# Altium footprint library STM32_F4VE.PcbLib: 20 footprints (part 1 of 2)
Each footprint in its own frame and in the unit in brackets; x right, y up, seen from the top. Pads: shape width x height; smd on the part's side, far side on the other; paste and mask are expansions set on the pad; w line width, h text height; cw(c..) or ccw(c..) is an arc to the next point about the centre after c.
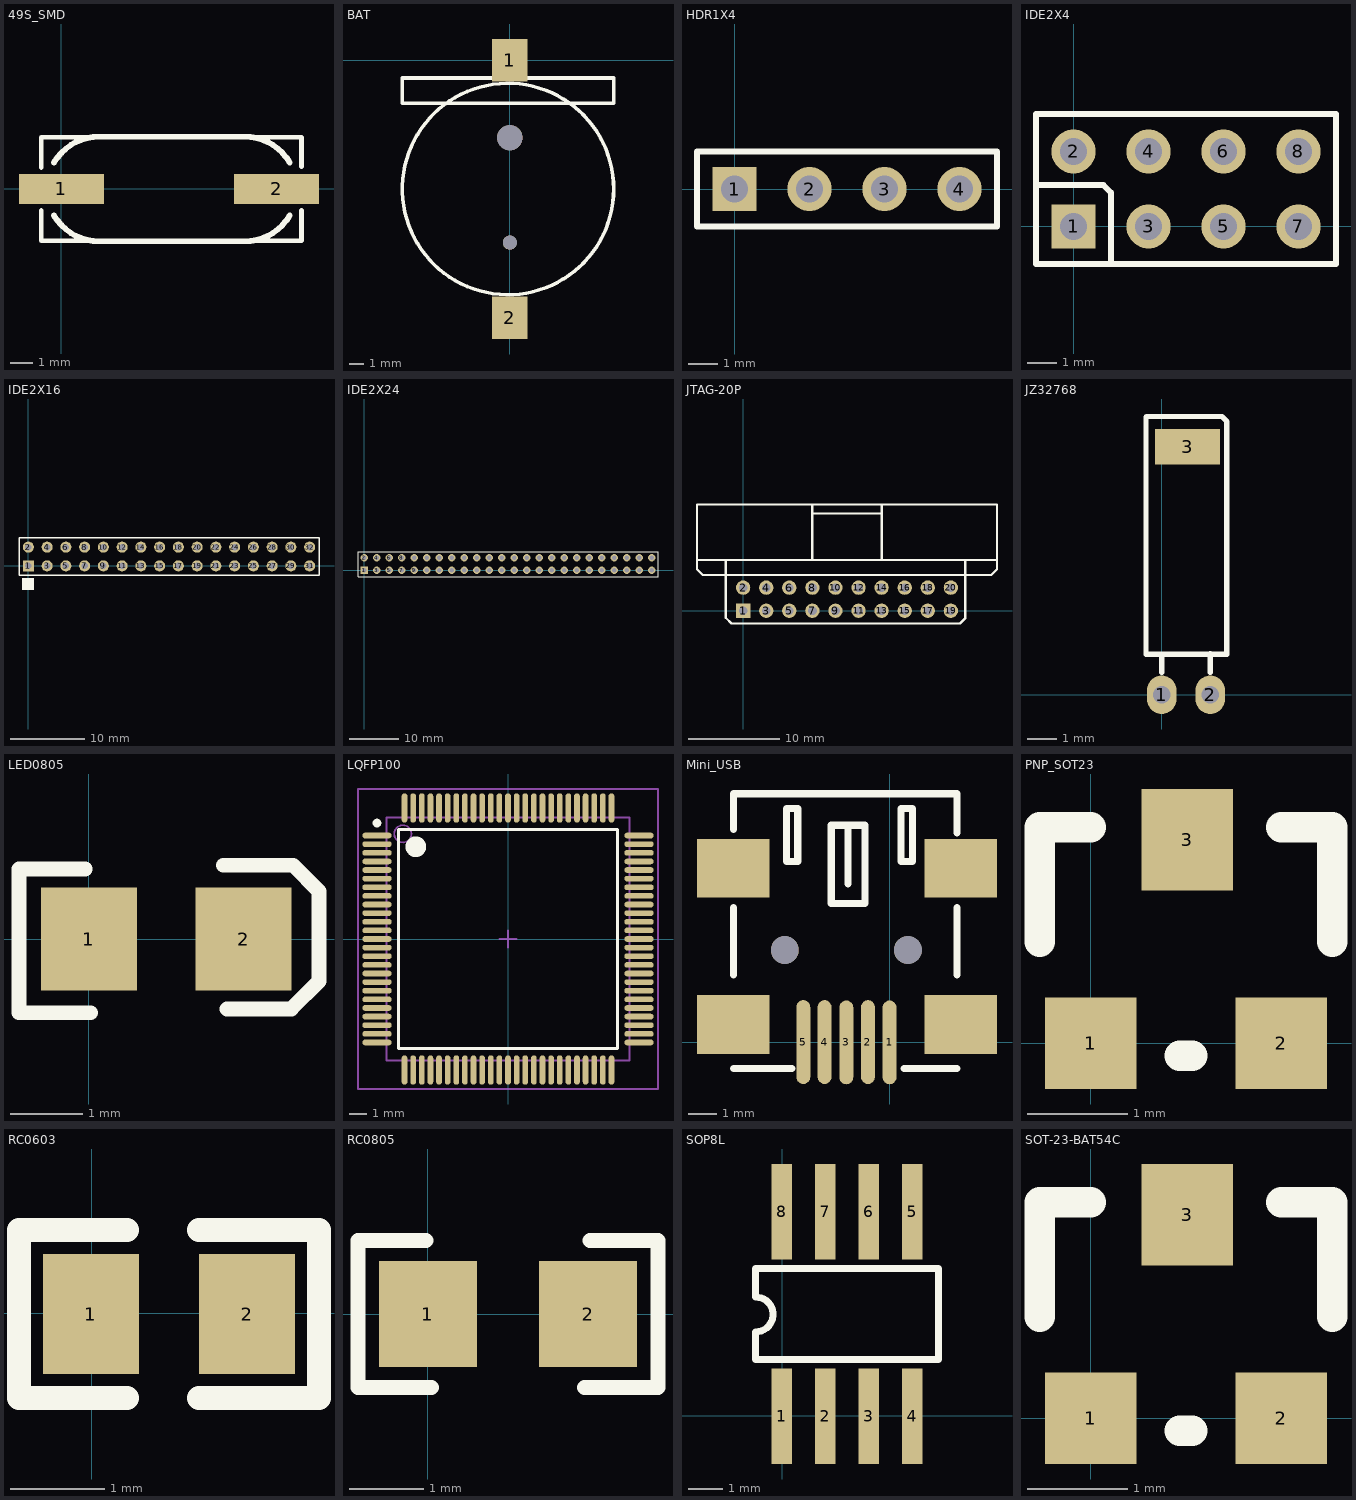
[diagram p0: the footprints below, top view; thin cyan lines are the x and y axes]

## 49S_SMD [mil]
pads (2):
  rect 146x51 smd: 1(0,0) 2(370,0)
Top Overlay:
  lines w8: -35,-37 -35,-89 413,-89 413,-37 ; -35,37 -35,89 413,89 413,38
  lines w10: -12.57,-45.63 ccw(c65,0) 65,-90 315,-90 ccw(c315,0) 392.57,-45.63 ; -12.57,45.63 cw(c65,0) 65,90 ; 55,90 315,90 cw(c315,0) 392.57,45.63

## BAT [mm]
pads (4):
  rect 2.5x3 smd: 1(0,0) 2(0,-18.288)
  round 1 hole 1: ""(0,-12.95)
  round 1.8 hole 1.8: ""(0,-5.5)
Top Overlay:
  circle w0.254: c-0.128,-9.144 r7.5
  lines w0.254: -7.62,-3.048 -7.62,-1.27 7.366,-1.27 7.366,-3.048 -7.62,-3.048

## HDR1X4 [mm] "Connector; Header; 4 Position"
pads (4):
  rect 1.5x1.5 hole 0.9: 1(0,0)
  round 1.5 hole 0.9: 2(2.54,0) 3(5.08,0) 4(7.62,0)
Top Overlay:
  lines w0.2: -1.27,-1.27 8.89,-1.27 8.89,1.27 -1.27,1.27 -1.27,-1.27

## IDE2X4 [mm]
pads (8):
  rect 1.5x1.5 hole 0.9: 1(0,0)
  round 1.5 hole 0.9: 2(0,2.54) 3(2.54,0) 4(2.54,2.54) 5(5.08,0) 6(5.08,2.54) 7(7.62,0) 8(7.62,2.54)
Top Overlay:
  lines w0.2: -1.27,-1.27 8.89,-1.27 8.89,3.81 -1.27,3.81 -1.27,-1.27
  lines w0.203: -1.27,1.397 1.016,1.397 1.27,1.143 1.27,-1.27

## IDE2X16 [mm]
pads (32):
  rect 1.5x1.5 hole 0.9: 1(0,0)
  round 1.5 hole 0.9: 2(0,2.54) 3(2.54,0) 4(2.54,2.54) 5(5.08,0) 6(5.08,2.54) 7(7.62,0) 8(7.62,2.54) 9(10.16,0) 10(10.16,2.54) 11(12.7,0) 12(12.7,2.54) 13(15.24,0) 14(15.24,2.54) 15(17.78,0) 16(17.78,2.54) 17(20.32,0) 18(20.32,2.54) 19(22.86,0) 20(22.86,2.54) 21(25.4,0) 22(25.4,2.54) 23(27.94,0) 24(27.94,2.54) 25(30.48,0) 26(30.48,2.54) 27(33.02,0) 28(33.02,2.54) 29(35.56,0) 30(35.56,2.54) 31(38.1,0) 32(38.1,2.54)
Top Overlay:
  rectangle: -0.889,-3.302 0.762,-1.651
  lines w0.2: -1.27,-1.27 39.37,-1.27 39.37,3.81 -1.27,3.81 -1.27,-1.27

## IDE2X24 [mm]
pads (48):
  rect 1.5x1.5 hole 0.9: 1(0,0)
  round 1.5 hole 0.9: 2(0,2.54) 3(2.54,0) 4(2.54,2.54) 5(5.08,0) 6(5.08,2.54) 7(7.62,0) 8(7.62,2.54) 9(10.16,0) 10(10.16,2.54) 11(12.7,0) 12(12.7,2.54) 13(15.24,0) 14(15.24,2.54) 15(17.78,0) 16(17.78,2.54) 17(20.32,0) 18(20.32,2.54) 19(22.86,0) 20(22.86,2.54) 21(25.4,0) 22(25.4,2.54) 23(27.94,0) 24(27.94,2.54) 25(30.48,0) 26(30.48,2.54) 27(33.02,0) 28(33.02,2.54) 29(35.56,0) 30(35.56,2.54) 31(38.1,0) 32(38.1,2.54) 33(40.64,0) 34(40.64,2.54) 35(43.18,0) 36(43.18,2.54) 37(45.72,0) 38(45.72,2.54) 39(48.26,0) 40(48.26,2.54) 41(50.8,0) 42(50.8,2.54) 43(53.34,0) 44(53.34,2.54) 45(55.88,0) 46(55.88,2.54) 47(58.42,0) 48(58.42,2.54)
Top Overlay:
  lines w0.2: -1.27,-1.27 59.69,-1.27 59.69,3.81 -1.27,3.81 -1.27,-1.27

## JTAG-20P [mil]
pads (20):
  rect 62x62 hole 38: 1(0,0)
  round 62 hole 38: 2(0,100) 3(100,0) 4(100,100) 5(200,0) 6(200,100) 7(300,0) 8(300,100) 9(400,0) 10(400,100) 11(500,0) 12(500,100) 13(600,0) 14(600,100) 15(700,0) 16(700,100) 17(800,0) 18(800,100) 19(900,0) 20(900,100)
Top Overlay:
  lines w8: -76.12,220 -75,218.88
  lines w10: -75,218.88 -75,-30 -50,-55 940,-55 961.88,-33.12 961.88,220 ; 300,223.4 300,440 ; 300,460 300,421.07 600,421.07 600,460 ; 600,221.58 600,440 ; -200,220 1100,220 ; -200,220 -200,460 1100,460 1100,220 ; -200,220 -200,180 -175,155 -75,155 961.88,155 1075,155 1100,180 1100,220

## JZ32768 [mm]
pads (3):
  oval 1x1.3 hole 0.6: 1(0,0) 2(1.64,0)
  rect 2.2x1.2 smd: 3(0.875,8.382)
Top Overlay:
  lines w0.178: 0,0.762 0,1.37 ; 1.64,0.762 1.64,1.386 ; -0.53,1.37 2.2,1.37 2.2,8.77 2.2,9.23 2.032,9.398 -0.508,9.398 -0.53,9.376 -0.53,8.77 -0.53,1.37

## LED0805 [mil]
pads (2):
  rect 52x56 smd: 1(0,0) 2(84,0)
Top Overlay:
  lines w8: -2,38 -38,38 -38,-40 1,-40 ; 73,40 111,40 125,26 125,-23 110,-38 75,-38

## LQFP100 [mm] "LQFP, 100-Leads, Body 16.2x16.2mm (max), Pitch 0.50mm, IPC Medium Density"
height 1.6
pads (100):
  oval 1.7x0.33 smd: 1(-7.6,6) 2(-7.6,5.5) 3(-7.6,5) 4(-7.6,4.5) 5(-7.6,4) 6(-7.6,3.5) 7(-7.6,3) 8(-7.6,2.5) 9(-7.6,2) 10(-7.6,1.5) 11(-7.6,1) 12(-7.6,0.5) 13(-7.6,0) 14(-7.6,-0.5) 15(-7.6,-1) 16(-7.6,-1.5) 17(-7.6,-2) 18(-7.6,-2.5) 19(-7.6,-3) 20(-7.6,-3.5) 21(-7.6,-4) 22(-7.6,-4.5) 23(-7.6,-5) 24(-7.6,-5.5) 25(-7.6,-6) 51(7.6,-6) 52(7.6,-5.5) 53(7.6,-5) 54(7.6,-4.5) 55(7.6,-4) 56(7.6,-3.5) 57(7.6,-3) 58(7.6,-2.5) 59(7.6,-2) 60(7.6,-1.5) 61(7.6,-1) 62(7.6,-0.5) 63(7.6,0) 64(7.6,0.5) 65(7.6,1) 66(7.6,1.5) 67(7.6,2) 68(7.6,2.5) 69(7.6,3) 70(7.6,3.5) 71(7.6,4) 72(7.6,4.5) 73(7.6,5) 74(7.6,5.5) 75(7.6,6)
  oval 0.33x1.7 smd: 26(-6,-7.6) 27(-5.5,-7.6) 28(-5,-7.6) 29(-4.5,-7.6) 30(-4,-7.6) 31(-3.5,-7.6) 32(-3,-7.6) 33(-2.5,-7.6) 34(-2,-7.6) 35(-1.5,-7.6) 36(-1,-7.6) 37(-0.5,-7.6) 38(0,-7.6) 39(0.5,-7.6) 40(1,-7.6) 41(1.5,-7.6) 42(2,-7.6) 43(2.5,-7.6) 44(3,-7.6) 45(3.5,-7.6) 46(4,-7.6) 47(4.5,-7.6) 48(5,-7.6) 49(5.5,-7.6) 50(6,-7.6) 76(6,7.6) 77(5.5,7.6) 78(5,7.6) 79(4.5,7.6) 80(4,7.6) 81(3.5,7.6) 82(3,7.6) 83(2.5,7.6) 84(2,7.6) 85(1.5,7.6) 86(1,7.6) 87(0.5,7.6) 88(0,7.6) 89(-0.5,7.6) 90(-1,7.6) 91(-1.5,7.6) 92(-2,7.6) 93(-2.5,7.6) 94(-3,7.6) 95(-3.5,7.6) 96(-4,7.6) 97(-4.5,7.6) 98(-5,7.6) 99(-5.5,7.6) 100(-6,7.6)
Top Overlay:
  circle w0.6: c-5.35,5.35 r0.3
  circle w0.25: c-7.6,6.725 r0.125
  lines w0.2: -6.35,-6.35 6.35,-6.35 6.35,6.35 -6.35,6.35 -6.35,-6.35
Mechanical 13:
  circle w0.1: c-6.1,6.1 r0.5
  lines w0.1: -7.05,-7.05 7.05,-7.05 7.05,7.05 -7.05,7.05 -7.05,-7.05
Mechanical 15:
  lines w0.1: -0.5,0 0.5,0 ; 0,-0.5 0,0.5 ; -8.7,-8.7 8.7,-8.7 8.7,8.7 -8.7,8.7 -8.7,-8.7
3D body: height 1.6, standoff 0.05, extent -7.05,-7.05 7.05,7.05

## Mini_USB [mm]
pads (11):
  oval 0.5x3 smd: 1(0,0) 2(-0.775,0.009) 3(-1.549,0) 4(-2.324,0.009) 5(-3.086,0.009)
  rect 2.6x2.1 smd: ""(-5.588,0.635) ""(-5.588,6.223) ""(2.54,0.635) ""(2.54,6.223)
  round 1 hole 1: ""(-3.749,3.299) ""(0.651,3.299)
Top Overlay:
  lines w0.254: -5.588,2.413 -5.588,4.826 ; -5.586,-0.938 -3.486,-0.938 ; -5.586,7.62 -5.586,8.89 2.414,8.89 2.414,7.493 ; -1.486,5.662 -1.486,7.762 ; 0.514,-0.938 2.414,-0.938 ; 2.413,2.413 2.413,4.826 ; -3.686,6.462 -3.686,8.362 -3.286,8.362 -3.286,6.462 -3.686,6.462 ; -2.086,4.962 -0.886,4.962 -0.886,7.762 -2.086,7.762 -2.086,4.962 ; 0.414,6.462 0.414,8.362 0.814,8.362 0.814,6.462 0.414,6.462

## PNP_SOT23 [mil]
pads (3):
  rect 36x36 smd: 1(0,0) 2(75,0)
  rect 36x40 smd: 3(38,80)
Top Overlay:
  lines w12: -20,40 -20,85 0,85 ; 35,-5 40,-5 ; 75,85 95,85 95,40

## RC0603 [mil]
pads (2):
  rect 40x50 smd: 1(-0.41,-0.3) 2(64.59,-0.3)
Top Overlay:
  lines w10: 14.59,-35.3 -30.41,-35.3 -30.41,34.7 14.59,34.7 ; 44.59,-35.3 94.59,-35.3 94.59,34.7 44.59,34.7

## RC0805 [mil]
pads (2):
  rect 52x56 smd: 1(0,0) 2(85,0)
Top Overlay:
  lines w8: -1,39 -37,39 -37,-39 2,-39 ; 83,-39 122,-39 122,39 86,39

## SOP8L [mil]
pads (8):
  rect 24x110 smd: 1(-0.41,-0.3) 2(49.59,-0.3) 3(99.59,-0.3) 4(149.59,-0.3) 5(149.59,234.7) 6(99.59,234.7) 7(49.59,234.7) 8(-0.41,234.7)
Top Overlay:
  lines w8: -30.41,64.7 179.59,64.7 179.59,169.7 -30.41,169.7 -30.41,136.7 cw(c-30.41,116.7) -30.41,96.7 -30.41,64.7

## SOT-23-BAT54C [mil]
pads (3):
  rect 36x36 smd: 1(0,0) 2(75,0)
  rect 36x40 smd: 3(38,80)
Top Overlay:
  lines w12: -20,40 -20,85 0,85 ; 35,-5 40,-5 ; 75,85 95,85 95,40